# Altium integrated library Xilinx Spartan-3A.IntLib: 90 symbols (part 26 of 55)
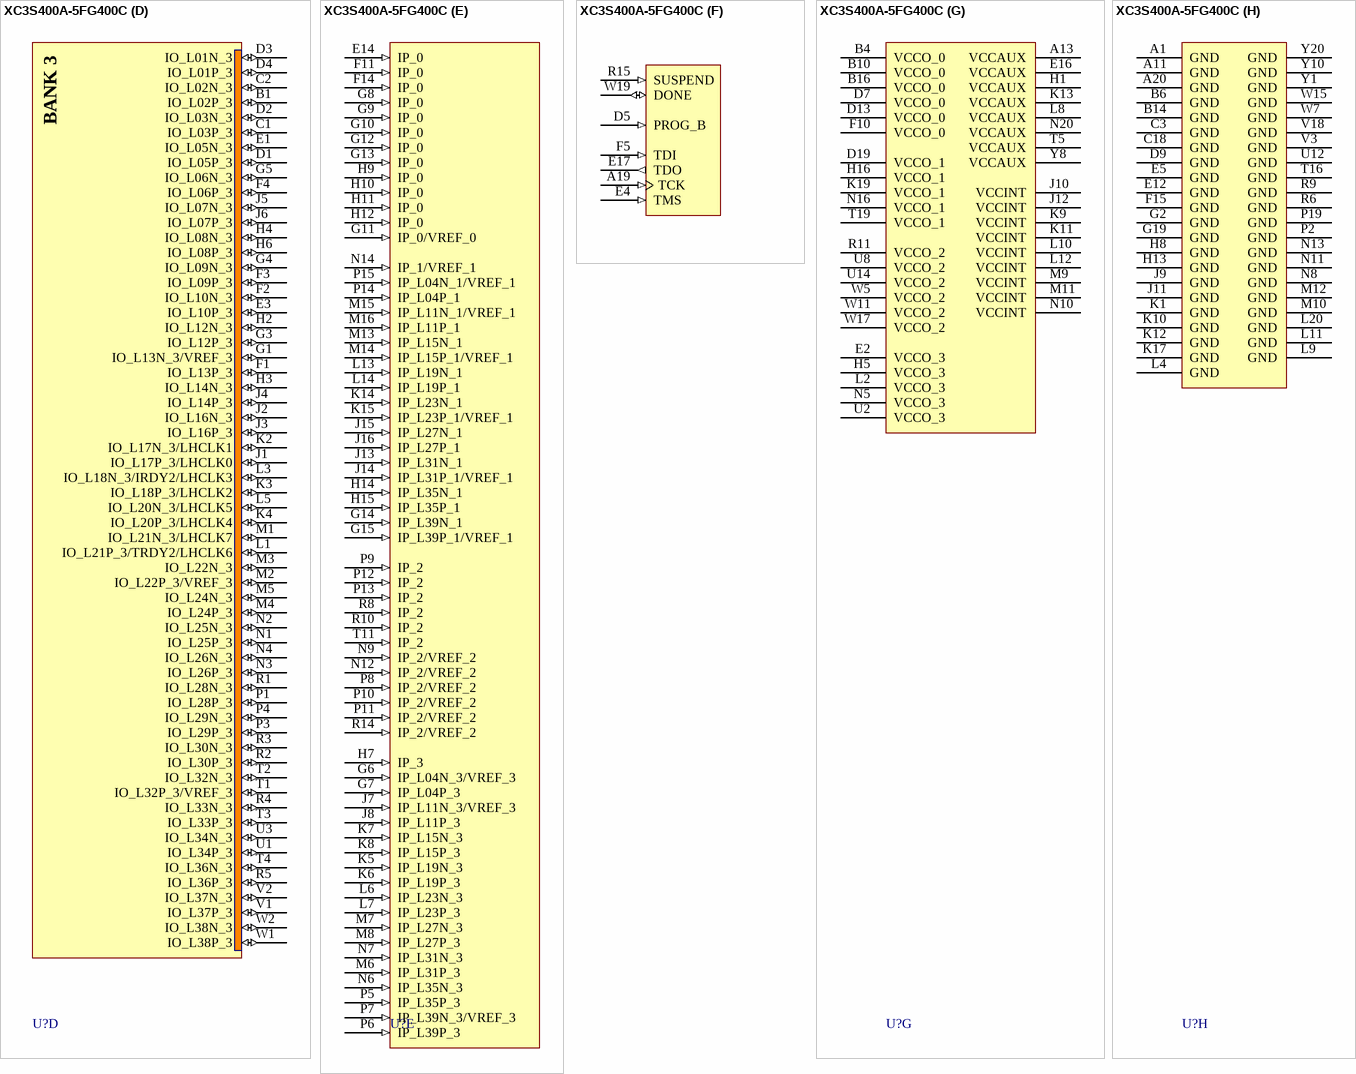
[diagram p121: symbol XC3S400A-5FG400C]

## XC3S400A-5FG400C
designator U?
Spartan-3A I/O Optimized FPGA, 311 User I/Os, 400-Ball FBGA, High Performance, Commercial Grade; Published: 12-Dec-2006; LatestRevisionDate: 24-Apr-2009; LatestRevisionNote: Updated to datasheet version 1.8 Mar-2009; DatasheetVersion: ver1.8, Mar-2009; PackageVersion: ver1.0, Mar-2005; PackageReference: FG400; Publisher: Altium Limited; PackageDescription: 400-Ball Fine Pitch Ball Grid Array 1.00 mm Pitch (FG400); Supplier 1: Digi-Key; Supplier Part Number 1: XC3S400A-5FG400C-ND; Code_JEDEC: MS-034-AAH-1; Code_IPC: BGA100P20X20-400; ComponentLink1Description: Spartan-3A Datasheet; ComponentLink1URL: http://www.xilinx.com/support/documentation/data_sheets/ds529.pdf; ComponentLink2Description: FG400 Package Drawing; ComponentLink2URL: http://www.xilinx.com/support/documentation/package_specs/fg400.pdf; ComponentLink3Description: Spartan-3A Documents; ComponentLink3URL: http://www.xilinx.com/support/documentation/spartan-3a.htm; ComponentLink4Description: Xilinx.com Home; ComponentLink4URL: http://www.xilinx.com
footprint FG400 (BGA, 400-Leads, Body 21x21mm, Pitch 1mm)
signal-integrity model XC3S400A_FG400 (Spartan-3A)
part A pins: A2 IO_L32P_0/VREF_0 (io) "Dual-purpose pin that is either a user-I/O pin or provides a reference voltage input.", A3 IO_L30P_0 (io) "Unrestricted, general-purpose user-I/O pin.", A4 IO_L29P_0 (io) "Unrestricted, general-purpose user-I/O pin.", A5 IO_L26P_0 (io) "Unrestricted, general-purpose user-I/O pin.", A6 IO_L25P_0 (io) "Unrestricted, general-purpose user-I/O pin.", A7 IO_L24N_0 (io) "Unrestricted, general-purpose user-I/O pin.", A8 IO_L18N_0/GCLK11 (io) "Either a user-I/O pin or a global clock input.", A9 IO_L18P_0/GCLK10 (io) "Either a user-I/O pin or a global clock input.", A10 IO_L16P_0/GCLK6 (io) "Either a user-I/O pin or a global clock input.", A12 IO_L13N_0 (io) "Unrestricted, general-purpose user-I/O pin.", A14 IO_L07N_0 (io) "Unrestricted, general-purpose user-I/O pin.", A15 IO_L08N_0 (io) "Unrestricted, general-purpose user-I/O pin.", A16 IO_L05N_0 (io) "Unrestricted, general-purpose user-I/O pin.", A17 IO_L04N_0 (io) "Unrestricted, general-purpose user-I/O pin.", A18 IO_L01N_0 (io) "Unrestricted, general-purpose user-I/O pin.", B2 IO_L32N_0/PUDC_B (io) "Dual-purpose pin used in some configuration modes, and then usually available as a user-I/O.", B3 IO_L30N_0 (io) "Unrestricted, general-purpose user-I/O pin.", B5 IO_L26N_0 (io) "Unrestricted, general-purpose user-I/O pin.", B7 IO_L24P_0 (io) "Unrestricted, general-purpose user-I/O pin.", B8 IO_L20P_0 (io) "Unrestricted, general-purpose user-I/O pin.", B9 IO_L19P_0 (io) "Unrestricted, general-purpose user-I/O pin.", B11 IO_L14P_0 (io) "Unrestricted, general-purpose user-I/O pin.", B12 IO_L13P_0 (io) "Unrestricted, general-purpose user-I/O pin.", B13 IO_L11P_0 (io) "Unrestricted, general-purpose user-I/O pin.", B15 IO_L08P_0 (io) "Unrestricted, general-purpose user-I/O pin.", B17 IO_L04P_0/VREF_0 (io) "Dual-purpose pin that is either a user-I/O pin or provides a reference voltage input.", B18 IO_L01P_0 (io) "Unrestricted, general-purpose user-I/O pin.", C4 IO_L29N_0 (io) "Unrestricted, general-purpose user-I/O pin.", C5 IO_L28P_0 (io) "Unrestricted, general-purpose user-I/O pin.", C6 IO_L25N_0 (io) "Unrestricted, general-purpose user-I/O pin.", C7 IO_L21P_0 (io) "Unrestricted, general-purpose user-I/O pin.", C8 IO_L20N_0 (io) "Unrestricted, general-purpose user-I/O pin.", C9 IO_L19N_0 (io) "Unrestricted, general-purpose user-I/O pin.", C10 IO_L16N_0/GCLK7 (io) "Either a user-I/O pin or a global clock input.", C11 IO_L14N_0 (io) "Unrestricted, general-purpose user-I/O pin.", C12 IO_L11N_0 (io) "Unrestricted, general-purpose user-I/O pin.", C13 IO_L10N_0/VREF_0 (io) "Dual-purpose pin that is either a user-I/O pin or provides a reference voltage input.", C14 IO_L07P_0 (io) "Unrestricted, general-purpose user-I/O pin.", C15 IO_L06N_0 (io) "Unrestricted, general-purpose user-I/O pin.", C16 IO_L05P_0 (io) "Unrestricted, general-purpose user-I/O pin.", C17 IO_L02N_0 (io) "Unrestricted, general-purpose user-I/O pin.", D6 IO_L28N_0 (io) "Unrestricted, general-purpose user-I/O pin.", D8 IO_L21N_0 (io) "Unrestricted, general-purpose user-I/O pin.", D10 IO_L17P_0/GCLK8 (io) "Either a user-I/O pin or a global clock input.", D11 IO_L15P_0/GCLK4 (io) "Either a user-I/O pin or a global clock input.", D12 IO_L12P_0 (io) "Unrestricted, general-purpose user-I/O pin.", D14 IO_L10P_0 (io) "Unrestricted, general-purpose user-I/O pin.", D15 IO_L06P_0 (io) "Unrestricted, general-purpose user-I/O pin.", D16 IO_L03P_0 (io) "Unrestricted, general-purpose user-I/O pin.", D17 IO_L02P_0/VREF_0 (io) "Dual-purpose pin that is either a user-I/O pin or provides a reference voltage input.", E6 IO_L31P_0 (io) "Unrestricted, general-purpose user-I/O pin.", E7 IO_L27P_0 (io) "Unrestricted, general-purpose user-I/O pin.", E8 IO_L23P_0 (io) "Unrestricted, general-purpose user-I/O pin.", E9 IO_L22P_0 (io) "Unrestricted, general-purpose user-I/O pin.", E10 IO_L17N_0/GCLK9 (io) "Either a user-I/O pin or a global clock input.", E11 IO_L15N_0/GCLK5 (io) "Either a user-I/O pin or a global clock input.", E13 IO_L09P_0 (io) "Unrestricted, general-purpose user-I/O pin.", E15 IO_L03N_0 (io) "Unrestricted, general-purpose user-I/O pin.", F6 IO_L31N_0 (io) "Unrestricted, general-purpose user-I/O pin.", F7 IO_L27N_0 (io) "Unrestricted, general-purpose user-I/O pin.", F8 IO_L23N_0 (io) "Unrestricted, general-purpose user-I/O pin.", F9 IO_L22N_0/VREF_0 (io) "Dual-purpose pin that is either a user-I/O pin or provides a reference voltage input.", F12 IO_L12N_0 (io) "Unrestricted, general-purpose user-I/O pin.", F13 IO_L09N_0 (io) "Unrestricted, general-purpose user-I/O pin."
part B pins: B19 IO_L38N_1/A25 (io) "Dual-purpose pin used in some configuration modes, and then usually available as a user-I/O.", B20 IO_L38P_1/A24 (io) "Dual-purpose pin used in some configuration modes, and then usually available as a user-I/O.", C19 IO_L37N_1/A23 (io) "Dual-purpose pin used in some configuration modes, and then usually available as a user-I/O.", C20 IO_L37P_1/A22 (io) "Dual-purpose pin used in some configuration modes, and then usually available as a user-I/O.", D18 IO_L34N_1 (io) "Unrestricted, general-purpose user-I/O pin.", D20 IO_L34P_1 (io) "Unrestricted, general-purpose user-I/O pin.", E18 IO_L33P_1 (io) "Unrestricted, general-purpose user-I/O pin.", E19 IO_L32N_1 (io) "Unrestricted, general-purpose user-I/O pin.", E20 IO_L32P_1 (io) "Unrestricted, general-purpose user-I/O pin.", F16 IO_L36N_1/A21 (io) "Dual-purpose pin used in some configuration modes, and then usually available as a user-I/O.", F17 IO_L33N_1 (io) "Unrestricted, general-purpose user-I/O pin.", F18 IO_L30N_1/A19 (io) "Dual-purpose pin used in some configuration modes, and then usually available as a user-I/O.", F19 IO_L29N_1/A17 (io) "Dual-purpose pin used in some configuration modes, and then usually available as a user-I/O.", F20 IO_L29P_1/A16 (io) "Dual-purpose pin used in some configuration modes, and then usually available as a user-I/O.", G16 IO_L36P_1/A20 (io) "Dual-purpose pin used in some configuration modes, and then usually available as a user-I/O.", G17 IO_L30P_1/A18 (io) "Dual-purpose pin used in some configuration modes, and then usually available as a user-I/O.", G18 IO_L28P_1 (io) "Unrestricted, general-purpose user-I/O pin.", G20 IO_L26N_1/A15 (io) "Dual-purpose pin used in some configuration modes, and then usually available as a user-I/O.", H17 IO_L28N_1 (io) "Unrestricted, general-purpose user-I/O pin.", H18 IO_L25N_1/A13 (io) "Dual-purpose pin used in some configuration modes, and then usually available as a user-I/O.", H19 IO_L25P_1/A12 (io) "Dual-purpose pin used in some configuration modes, and then usually available as a user-I/O.", H20 IO_L26P_1/A14 (io) "Dual-purpose pin used in some configuration modes, and then usually available as a user-I/O.", J17 IO_L24P_1 (io) "Unrestricted, general-purpose user-I/O pin.", J18 IO_L22N_1/A11 (io) "Dual-purpose pin used in some configuration modes, and then usually available as a user-I/O.", J19 IO_L22P_1/A10 (io) "Dual-purpose pin used in some configuration modes, and then usually available as a user-I/O.", J20 IO_L21N_1/RHCLK7 (io) "Either a user-I/O pin or a global clock input for right half of device.", K16 IO_L24N_1 (io) "Unrestricted, general-purpose user-I/O pin.", K18 IO_L20P_1/RHCLK4 (io) "Either a user-I/O pin or a global clock input for right half of device.", K20 IO_L21P_1/IRDY1/RHCLK6 (io) "Either a user-I/O pin or a global clock input for right half of device.", L15 IO_L16P_1/A8 (io) "Dual-purpose pin used in some configuration modes, and then usually available as a user-I/O.", L16 IO_L16N_1/A9 (io) "Dual-purpose pin used in some configuration modes, and then usually available as a user-I/O.", L17 IO_L20N_1/RHCLK5 (io) "Either a user-I/O pin or a global clock input for right half of device.", L18 IO_L18N_1/TRDY1/RHCLK3 (io) "Either a user-I/O pin or a global clock input for right half of device.", L19 IO_L18P_1/RHCLK2 (io) "Either a user-I/O pin or a global clock input for right half of device.", M17 IO_L14P_1/A6 (io) "Dual-purpose pin used in some configuration modes, and then usually available as a user-I/O.", M18 IO_L14N_1/A7 (io) "Dual-purpose pin used in some configuration modes, and then usually available as a user-I/O.", M19 IO_L17P_1/RHCLK0 (io) "Either a user-I/O pin or a global clock input for right half of device.", M20 IO_L17N_1/RHCLK1 (io) "Either a user-I/O pin or a global clock input for right half of device.", N15 IO_L12P_1/A2 (io) "Dual-purpose pin used in some configuration modes, and then usually available as a user-I/O.", N17 IO_L12N_1/A3 (io) "Dual-purpose pin used in some configuration modes, and then usually available as a user-I/O.", N18 IO_L13P_1/A4 (io) "Dual-purpose pin used in some configuration modes, and then usually available as a user-I/O.", N19 IO_L13N_1/A5 (io) "Dual-purpose pin used in some configuration modes, and then usually available as a user-I/O.", P16 IO_L07P_1 (io) "Unrestricted, general-purpose user-I/O pin.", P17 IO_L07N_1 (io) "Unrestricted, general-purpose user-I/O pin.", P18 IO_L10P_1 (io) "Unrestricted, general-purpose user-I/O pin.", P20 IO_L10N_1/VREF_1 (io) "Dual-purpose pin that is either a user-I/O pin or provides a reference voltage input.", R16 IO_L03N_1/A1 (io) "Dual-purpose pin used in some configuration modes, and then usually available as a user-I/O.", R17 IO_L08N_1 (io) "Unrestricted, general-purpose user-I/O pin.", R18 IO_L08P_1 (io) "Unrestricted, general-purpose user-I/O pin.", R19 IO_L09P_1 (io) "Unrestricted, general-purpose user-I/O pin.", R20 IO_L09N_1 (io) "Unrestricted, general-purpose user-I/O pin.", T17 IO_L03P_1/A0 (io) "Dual-purpose pin used in some configuration modes, and then usually available as a user-I/O.", T18 IO_L05P_1 (io) "Unrestricted, general-purpose user-I/O pin.", T20 IO_L05N_1 (io) "Unrestricted, general-purpose user-I/O pin.", U18 IO_L02N_1/LDC0 (io) "Dual-purpose pin used in some configuration modes, and then usually available as a user-I/O.", U19 IO_L06P_1 (io) "Unrestricted, general-purpose user-I/O pin.", U20 IO_L06N_1 (io) "Unrestricted, general-purpose user-I/O pin.", V19 IO_L02P_1/LDC1 (io) "Dual-purpose pin used in some configuration modes, and then usually available as a user-I/O.", V20 IO_L01N_1/LDC2 (io) "Dual-purpose pin used in some configuration modes, and then usually available as a user-I/O.", W20 IO_L01P_1/HDC (io) "Dual-purpose pin used in some configuration modes, and then usually available as a user-I/O."
part C pins: R7 IO_L04N_2 (io) "Unrestricted, general-purpose user-I/O pin.", R12 IO_L19N_2 (io) "Unrestricted, general-purpose user-I/O pin.", R13 IO_L23N_2 (io) "Unrestricted, general-purpose user-I/O pin.", T6 IO_L04P_2 (io) "Unrestricted, general-purpose user-I/O pin.", T7 IO_L06P_2 (io) "Unrestricted, general-purpose user-I/O pin.", T8 IO_L07P_2/RDWR_B (io) "Dual-purpose pin used in some configuration modes, and then usually available as a user-I/O.", T9 IO_L11P_2 (io) "Unrestricted, general-purpose user-I/O pin.", T10 IO_L14N_2/D4 (io) "Dual-purpose pin used in some configuration modes, and then usually available as a user-I/O.", T12 IO_L19P_2 (io) "Unrestricted, general-purpose user-I/O pin.", T13 IO_L23P_2 (io) "Unrestricted, general-purpose user-I/O pin.", T14 IO_L25N_2 (io) "Unrestricted, general-purpose user-I/O pin.", T15 IO_L27N_2 (io) "Unrestricted, general-purpose user-I/O pin.", U4 IO_L01P_2/M1 (io) "Dual-purpose pin used in some configuration modes, and then usually available as a user-I/O.", U5 IO_L05N_2 (io) "Unrestricted, general-purpose user-I/O pin.", U6 IO_L06N_2 (io) "Unrestricted, general-purpose user-I/O pin.", U7 IO_L07N_2/VS2 (io) "Dual-purpose pin used in some configuration modes, and then usually available as a user-I/O.", U9 IO_L11N_2 (io) "Unrestricted, general-purpose user-I/O pin.", U10 IO_L14P_2/D5 (io) "Dual-purpose pin used in some configuration modes, and then usually available as a user-I/O.", U11 IO_L18P_2/GCLK2 (io) "Either a user-I/O pin or a global clock input.", U13 IO_L22P_2/AWAKE (io) "Dual-Purpose pin. Used for the power-saving Suspend mode and user-I/O.", U15 IO_L27P_2 (io) "Unrestricted, general-purpose user-I/O pin.", U16 IO_L29N_2 (io) "Unrestricted, general-purpose user-I/O pin.", U17 IO_L31N_2 (io) "Unrestricted, general-purpose user-I/O pin.", V4 IO_L01N_2/M0 (io) "Dual-purpose pin used in some configuration modes, and then usually available as a user-I/O.", V5 IO_L05P_2 (io) "Unrestricted, general-purpose user-I/O pin.", V6 IO_L09P_2/VS1 (io) "Dual-purpose pin used in some configuration modes, and then usually available as a user-I/O.", V7 IO_L12P_2/D7 (io) "Dual-purpose pin used in some configuration modes, and then usually available as a user-I/O.", V8 IO_L13P_2 (io) "Unrestricted, general-purpose user-I/O pin.", V9 IO_L13N_2 (io) "Unrestricted, general-purpose user-I/O pin.", V10 IO_L16P_2/GCLK14 (io) "Either a user-I/O pin or a global clock input.", V11 IO_L17N_2/GCLK1 (io) "Either a user-I/O pin or a global clock input.", V12 IO_L18N_2/GCLK3 (io) "Either a user-I/O pin or a global clock input.", V13 IO_L22N_2/DOUT (io) "Dual-purpose pin used in some configuration modes, and then usually available as a user-I/O.", V14 IO_L25P_2 (io) "Unrestricted, general-purpose user-I/O pin.", V15 IO_L26N_2/D1 (io) "Dual-purpose pin used in some configuration modes, and then usually available as a user-I/O.", V16 IO_L29P_2 (io) "Unrestricted, general-purpose user-I/O pin.", V17 IO_L31P_2 (io) "Unrestricted, general-purpose user-I/O pin.", W3 IO_L02P_2/M2 (io) "Dual-purpose pin used in some configuration modes, and then usually available as a user-I/O.", W4 IO_L03N_2 (io) "Unrestricted, general-purpose user-I/O pin.", W6 IO_L09N_2/VS0 (io) "Dual-purpose pin used in some configuration modes, and then usually available as a user-I/O.", W8 IO_L12N_2/D6 (io) "Dual-purpose pin used in some configuration modes, and then usually available as a user-I/O.", W9 IO_L15P_2/GCLK12 (io) "Either a user-I/O pin or a global clock input.", W10 IO_L16N_2/GCLK15 (io) "Either a user-I/O pin or a global clock input.", W12 IO_L20N_2/MOSI/CSI_B (io) "Dual-purpose pin used in some configuration modes, and then usually available as a user-I/O.", W13 IO_L21N_2 (io) "Unrestricted, general-purpose user-I/O pin.", W14 IO_L24N_2/D3 (io) "Dual-purpose pin used in some configuration modes, and then usually available as a user-I/O.", W16 IO_L28N_2 (io) "Unrestricted, general-purpose user-I/O pin.", W18 IO_L32P_2/D0/DIN/MISO (io) "Dual-purpose pin used in some configuration modes, and then usually available as a user-I/O.", Y2 IO_L02N_2/CSO_B (io) "Dual-purpose pin used in some configuration modes, and then usually available as a user-I/O.", Y3 IO_L03P_2 (io) "Unrestricted, general-purpose user-I/O pin.", Y4 IO_L08P_2 (io) "Unrestricted, general-purpose user-I/O pin.", Y5 IO_L08N_2 (io) "Unrestricted, general-purpose user-I/O pin.", Y6 IO_L10P_2 (io) "Unrestricted, general-purpose user-I/O pin.", Y7 IO_L10N_2 (io) "Unrestricted, general-purpose user-I/O pin.", Y9 IO_L15N_2/GCLK13 (io) "Either a user-I/O pin or a global clock input.", Y11 IO_L17P_2/GCLK0 (io) "Either a user-I/O pin or a global clock input.", Y12 IO_L20P_2 (io) "Unrestricted, general-purpose user-I/O pin.", Y13 IO_L21P_2 (io) "Unrestricted, general-purpose user-I/O pin.", Y14 IO_L24P_2/INIT_B (io) "Dual-purpose pin used in some configuration modes, and then usually available as a user-I/O.", Y15 IO_L26P_2/D2 (io) "Dual-purpose pin used in some configuration modes, and then usually available as a user-I/O.", Y16 IO_L28P_2 (io) "Unrestricted, general-purpose user-I/O pin.", Y17 IO_L30P_2 (io) "Unrestricted, general-purpose user-I/O pin.", Y18 IO_L30N_2 (io) "Unrestricted, general-purpose user-I/O pin.", Y19 IO_L32N_2/CCLK (io) "Dual-purpose pin used in some configuration modes, and then usually available as a user-I/O."
part D pins: B1 IO_L02P_3 (io) "Unrestricted, general-purpose user-I/O pin.", C1 IO_L03P_3 (io) "Unrestricted, general-purpose user-I/O pin.", C2 IO_L02N_3 (io) "Unrestricted, general-purpose user-I/O pin.", D1 IO_L05P_3 (io) "Unrestricted, general-purpose user-I/O pin.", D2 IO_L03N_3 (io) "Unrestricted, general-purpose user-I/O pin.", D3 IO_L01N_3 (io) "Unrestricted, general-purpose user-I/O pin.", D4 IO_L01P_3 (io) "Unrestricted, general-purpose user-I/O pin.", E1 IO_L05N_3 (io) "Unrestricted, general-purpose user-I/O pin.", E3 IO_L10P_3 (io) "Unrestricted, general-purpose user-I/O pin.", F1 IO_L13P_3 (io) "Unrestricted, general-purpose user-I/O pin.", F2 IO_L10N_3 (io) "Unrestricted, general-purpose user-I/O pin.", F3 IO_L09P_3 (io) "Unrestricted, general-purpose user-I/O pin.", F4 IO_L06P_3 (io) "Unrestricted, general-purpose user-I/O pin.", G1 IO_L13N_3/VREF_3 (io) "Dual-purpose pin that is either a user-I/O pin or provides a reference voltage input.", G3 IO_L12P_3 (io) "Unrestricted, general-purpose user-I/O pin.", G4 IO_L09N_3 (io) "Unrestricted, general-purpose user-I/O pin.", G5 IO_L06N_3 (io) "Unrestricted, general-purpose user-I/O pin.", H2 IO_L12N_3 (io) "Unrestricted, general-purpose user-I/O pin.", H3 IO_L14N_3 (io) "Unrestricted, general-purpose user-I/O pin.", H4 IO_L08N_3 (io) "Unrestricted, general-purpose user-I/O pin.", H6 IO_L08P_3 (io) "Unrestricted, general-purpose user-I/O pin.", J1 IO_L17P_3/LHCLK0 (io) "Either a user-I/O pin or a global clock input for left half of device.", J2 IO_L16N_3 (io) "Unrestricted, general-purpose user-I/O pin.", J3 IO_L16P_3 (io) "Unrestricted, general-purpose user-I/O pin.", J4 IO_L14P_3 (io) "Unrestricted, general-purpose user-I/O pin.", J5 IO_L07N_3 (io) "Unrestricted, general-purpose user-I/O pin.", J6 IO_L07P_3 (io) "Unrestricted, general-purpose user-I/O pin.", K2 IO_L17N_3/LHCLK1 (io) "Either a user-I/O pin or a global clock input for left half of device.", K3 IO_L18P_3/LHCLK2 (io) "Either a user-I/O pin or a global clock input for left half of device.", K4 IO_L20P_3/LHCLK4 (io) "Either a user-I/O pin or a global clock input for left half of device.", L1 IO_L21P_3/TRDY2/LHCLK6 (io) "Either a user-I/O pin or a global clock input for left half of device.", L3 IO_L18N_3/IRDY2/LHCLK3 (io) "Either a user-I/O pin or a global clock input for left half of device.", L5 IO_L20N_3/LHCLK5 (io) "Either a user-I/O pin or a global clock input for left half of device.", M1 IO_L21N_3/LHCLK7 (io) "Either a user-I/O pin or a global clock input for left half of device.", M2 IO_L22P_3/VREF_3 (io) "Dual-purpose pin that is either a user-I/O pin or provides a reference voltage input.", M3 IO_L22N_3 (io) "Unrestricted, general-purpose user-I/O pin.", M4 IO_L24P_3 (io) "Unrestricted, general-purpose user-I/O pin.", M5 IO_L24N_3 (io) "Unrestricted, general-purpose user-I/O pin.", N1 IO_L25P_3 (io) "Unrestricted, general-purpose user-I/O pin.", N2 IO_L25N_3 (io) "Unrestricted, general-purpose user-I/O pin.", N3 IO_L26P_3 (io) "Unrestricted, general-purpose user-I/O pin.", N4 IO_L26N_3 (io) "Unrestricted, general-purpose user-I/O pin.", P1 IO_L28P_3 (io) "Unrestricted, general-purpose user-I/O pin.", P3 IO_L29P_3 (io) "Unrestricted, general-purpose user-I/O pin.", P4 IO_L29N_3 (io) "Unrestricted, general-purpose user-I/O pin.", R1 IO_L28N_3 (io) "Unrestricted, general-purpose user-I/O pin.", R2 IO_L30P_3 (io) "Unrestricted, general-purpose user-I/O pin.", R3 IO_L30N_3 (io) "Unrestricted, general-purpose user-I/O pin.", R4 IO_L33N_3 (io) "Unrestricted, general-purpose user-I/O pin.", R5 IO_L36P_3 (io) "Unrestricted, general-purpose user-I/O pin.", T1 IO_L32P_3/VREF_3 (io) "Dual-purpose pin that is either a user-I/O pin or provides a reference voltage input.", T2 IO_L32N_3 (io) "Unrestricted, general-purpose user-I/O pin.", T3 IO_L33P_3 (io) "Unrestricted, general-purpose user-I/O pin.", T4 IO_L36N_3 (io) "Unrestricted, general-purpose user-I/O pin.", U1 IO_L34P_3 (io) "Unrestricted, general-purpose user-I/O pin.", U3 IO_L34N_3 (io) "Unrestricted, general-purpose user-I/O pin.", V1 IO_L37P_3 (io) "Unrestricted, general-purpose user-I/O pin.", V2 IO_L37N_3 (io) "Unrestricted, general-purpose user-I/O pin.", W1 IO_L38P_3 (io) "Unrestricted, general-purpose user-I/O pin.", W2 IO_L38N_3 (io) "Unrestricted, general-purpose user-I/O pin."
part E pins: E14 IP_0 (in) "Unrestricted, general-purpose input-only pin.", F11 IP_0 (in) "Unrestricted, general-purpose input-only pin.", F14 IP_0 (in) "Unrestricted, general-purpose input-only pin.", G6 IP_L04N_3/VREF_3 (in) "Dual-purpose pin that is either a Input-only pin, or provides a reference voltage input.", G7 IP_L04P_3 (in) "Unrestricted, general-purpose input-only pin.", G8 IP_0 (in) "Unrestricted, general-purpose input-only pin.", G9 IP_0 (in) "Unrestricted, general-purpose input-only pin.", G10 IP_0 (in) "Unrestricted, general-purpose input-only pin.", G11 IP_0/VREF_0 (in) "Dual-purpose pin that is either a Input-only pin, or provides a reference voltage input.", G12 IP_0 (in) "Unrestricted, general-purpose input-only pin.", G13 IP_0 (in) "Unrestricted, general-purpose input-only pin.", G14 IP_L39N_1 (in) "Unrestricted, general-purpose input-only pin.", G15 IP_L39P_1/VREF_1 (in) "Dual-purpose pin that is either a Input-only pin, or provides a reference voltage input.", H7 IP_3 (in) "Unrestricted, general-purpose input-only pin.", H9 IP_0 (in) "Unrestricted, general-purpose input-only pin.", H10 IP_0 (in) "Unrestricted, general-purpose input-only pin.", H11 IP_0 (in) "Unrestricted, general-purpose input-only pin.", H12 IP_0 (in) "Unrestricted, general-purpose input-only pin.", H14 IP_L35N_1 (in) "Unrestricted, general-purpose input-only pin.", H15 IP_L35P_1 (in) "Unrestricted, general-purpose input-only pin.", J7 IP_L11N_3/VREF_3 (in) "Dual-purpose pin that is either a Input-only pin, or provides a reference voltage input.", J8 IP_L11P_3 (in) "Unrestricted, general-purpose input-only pin.", J13 IP_L31N_1 (in) "Unrestricted, general-purpose input-only pin.", J14 IP_L31P_1/VREF_1 (in) "Dual-purpose pin that is either a Input-only pin, or provides a reference voltage input.", J15 IP_L27N_1 (in) "Unrestricted, general-purpose input-only pin.", J16 IP_L27P_1 (in) "Unrestricted, general-purpose input-only pin.", K5 IP_L19N_3 (in) "Unrestricted, general-purpose input-only pin.", K6 IP_L19P_3 (in) "Unrestricted, general-purpose input-only pin.", K7 IP_L15N_3 (in) "Unrestricted, general-purpose input-only pin.", K8 IP_L15P_3 (in) "Unrestricted, general-purpose input-only pin.", K14 IP_L23N_1 (in) "Unrestricted, general-purpose input-only pin.", K15 IP_L23P_1/VREF_1 (in) "Dual-purpose pin that is either a Input-only pin, or provides a reference voltage input.", L6 IP_L23N_3 (in) "Unrestricted, general-purpose input-only pin.", L7 IP_L23P_3 (in) "Unrestricted, general-purpose input-only pin.", L13 IP_L19N_1 (in) "Unrestricted, general-purpose input-only pin.", L14 IP_L19P_1 (in) "Unrestricted, general-purpose input-only pin.", M6 IP_L31P_3 (in) "Unrestricted, general-purpose input-only pin.", M7 IP_L27N_3 (in) "Unrestricted, general-purpose input-only pin.", M8 IP_L27P_3 (in) "Unrestricted, general-purpose input-only pin.", M13 IP_L15N_1 (in) "Unrestricted, general-purpose input-only pin.", M14 IP_L15P_1/VREF_1 (in) "Dual-purpose pin that is either a Input-only pin, or provides a reference voltage input.", M15 IP_L11N_1/VREF_1 (in) "Dual-purpose pin that is either a Input-only pin, or provides a reference voltage input.", M16 IP_L11P_1 (in) "Unrestricted, general-purpose input-only pin.", N6 IP_L35N_3 (in) "Unrestricted, general-purpose input-only pin.", N7 IP_L31N_3 (in) "Unrestricted, general-purpose input-only pin.", N9 IP_2/VREF_2 (in) "Dual-purpose pin that is either a Input-only pin, or provides a reference voltage input.", N12 IP_2/VREF_2 (in) "Dual-purpose pin that is either a Input-only pin, or provides a reference voltage input.", N14 IP_1/VREF_1 (in) "Dual-purpose pin that is either a Input-only pin, or provides a reference voltage input.", P5 IP_L35P_3 (in) "Unrestricted, general-purpose input-only pin.", P6 IP_L39P_3 (in) "Unrestricted, general-purpose input-only pin.", P7 IP_L39N_3/VREF_3 (in) "Dual-purpose pin that is either a Input-only pin, or provides a reference voltage input.", P8 IP_2/VREF_2 (in) "Dual-purpose pin that is either a Input-only pin, or provides a reference voltage input.", P9 IP_2 (in) "Unrestricted, general-purpose input-only pin.", P10 IP_2/VREF_2 (in) "Dual-purpose pin that is either a Input-only pin, or provides a reference voltage input.", P11 IP_2/VREF_2 (in) "Dual-purpose pin that is either a Input-only pin, or provides a reference voltage input.", P12 IP_2 (in) "Unrestricted, general-purpose input-only pin.", P13 IP_2 (in) "Unrestricted, general-purpose input-only pin.", P14 IP_L04P_1 (in) "Unrestricted, general-purpose input-only pin.", P15 IP_L04N_1/VREF_1 (in) "Dual-purpose pin that is either a Input-only pin, or provides a reference voltage input.", R8 IP_2 (in) "Unrestricted, general-purpose input-only pin.", R10 IP_2 (in) "Unrestricted, general-purpose input-only pin.", R14 IP_2/VREF_2 (in) "Dual-purpose pin that is either a Input-only pin, or provides a reference voltage input.", T11 IP_2 (in) "Unrestricted, general-purpose input-only pin."
part F pins: A19 TCK (in) "Dedicated JTAG pin.", D5 PROG_B (in) "Dedicated configuration pin.", E4 TMS (in) "Dedicated JTAG pin.", E17 TDO (out) "Dedicated JTAG pin.", F5 TDI (in) "Dedicated JTAG pin.", R15 SUSPEND (in) "Dedicated pin for the power-saving Suspend mode.", W19 DONE (io) "Dedicated configuration pin."
part G pins: A13 VCCAUX (power) "Dedicated auxiliary power supply pin.", B4 VCCO_0 (power) "Supplies power to the output buffers within the I/O bank.", B10 VCCO_0 (power) "Supplies power to the output buffers within the I/O bank.", B16 VCCO_0 (power) "Supplies power to the output buffers within the I/O bank.", D7 VCCO_0 (power) "Supplies power to the output buffers within the I/O bank.", D13 VCCO_0 (power) "Supplies power to the output buffers within the I/O bank.", D19 VCCO_1 (power) "Supplies power to the output buffers within the I/O bank.", E2 VCCO_3 (power) "Supplies power to the output buffers within the I/O bank.", E16 VCCAUX (power) "Dedicated auxiliary power supply pin.", F10 VCCO_0 (power) "Supplies power to the output buffers within the I/O bank.", H1 VCCAUX (power) "Dedicated auxiliary power supply pin.", H5 VCCO_3 (power) "Supplies power to the output buffers within the I/O bank.", H16 VCCO_1 (power) "Supplies power to the output buffers within the I/O bank.", J10 VCCINT (power) "Dedicated internal core logic power supply pin.", J12 VCCINT (power) "Dedicated internal core logic power supply pin.", K9 VCCINT (power) "Dedicated internal core logic power supply pin.", K11 VCCINT (power) "Dedicated internal core logic power supply pin.", K13 VCCAUX (power) "Dedicated auxiliary power supply pin.", K19 VCCO_1 (power) "Supplies power to the output buffers within the I/O bank.", L2 VCCO_3 (power) "Supplies power to the output buffers within the I/O bank.", L8 VCCAUX (power) "Dedicated auxiliary power supply pin.", L10 VCCINT (power) "Dedicated internal core logic power supply pin.", L12 VCCINT (power) "Dedicated internal core logic power supply pin.", M9 VCCINT (power) "Dedicated internal core logic power supply pin.", M11 VCCINT (power) "Dedicated internal core logic power supply pin.", N5 VCCO_3 (power) "Supplies power to the output buffers within the I/O bank.", N10 VCCINT (power) "Dedicated internal core logic power supply pin.", N16 VCCO_1 (power) "Supplies power to the output buffers within the I/O bank.", N20 VCCAUX (power) "Dedicated auxiliary power supply pin.", R11 VCCO_2 (power) "Supplies power to the output buffers within the I/O bank.", T5 VCCAUX (power) "Dedicated auxiliary power supply pin.", T19 VCCO_1 (power) "Supplies power to the output buffers within the I/O bank.", U2 VCCO_3 (power) "Supplies power to the output buffers within the I/O bank.", U8 VCCO_2 (power) "Supplies power to the output buffers within the I/O bank.", U14 VCCO_2 (power) "Supplies power to the output buffers within the I/O bank.", W5 VCCO_2 (power) "Supplies power to the output buffers within the I/O bank.", W11 VCCO_2 (power) "Supplies power to the output buffers within the I/O bank.", W17 VCCO_2 (power) "Supplies power to the output buffers within the I/O bank.", Y8 VCCAUX (power) "Dedicated auxiliary power supply pin."
part H pins: A1 GND (power) "Dedicated ground pin.", A11 GND (power) "Dedicated ground pin.", A20 GND (power) "Dedicated ground pin.", B6 GND (power) "Dedicated ground pin.", B14 GND (power) "Dedicated ground pin.", C3 GND (power) "Dedicated ground pin.", C18 GND (power) "Dedicated ground pin.", D9 GND (power) "Dedicated ground pin.", E5 GND (power) "Dedicated ground pin.", E12 GND (power) "Dedicated ground pin.", F15 GND (power) "Dedicated ground pin.", G2 GND (power) "Dedicated ground pin.", G19 GND (power) "Dedicated ground pin.", H8 GND (power) "Dedicated ground pin.", H13 GND (power) "Dedicated ground pin.", J9 GND (power) "Dedicated ground pin.", J11 GND (power) "Dedicated ground pin.", K1 GND (power) "Dedicated ground pin.", K10 GND (power) "Dedicated ground pin.", K12 GND (power) "Dedicated ground pin.", K17 GND (power) "Dedicated ground pin.", L4 GND (power) "Dedicated ground pin.", L9 GND (power) "Dedicated ground pin.", L11 GND (power) "Dedicated ground pin.", L20 GND (power) "Dedicated ground pin.", M10 GND (power) "Dedicated ground pin.", M12 GND (power) "Dedicated ground pin.", N8 GND (power) "Dedicated ground pin.", N11 GND (power) "Dedicated ground pin.", N13 GND (power) "Dedicated ground pin.", P2 GND (power) "Dedicated ground pin.", P19 GND (power) "Dedicated ground pin.", R6 GND (power) "Dedicated ground pin.", R9 GND (power) "Dedicated ground pin.", T16 GND (power) "Dedicated ground pin.", U12 GND (power) "Dedicated ground pin.", V3 GND (power) "Dedicated ground pin.", V18 GND (power) "Dedicated ground pin.", W7 GND (power) "Dedicated ground pin.", W15 GND (power) "Dedicated ground pin.", Y1 GND (power) "Dedicated ground pin.", Y10 GND (power) "Dedicated ground pin.", Y20 GND (power) "Dedicated ground pin."
part A text: BANK 0
part B text: BANK 1
part C text: BANK 2
part D text: BANK 3

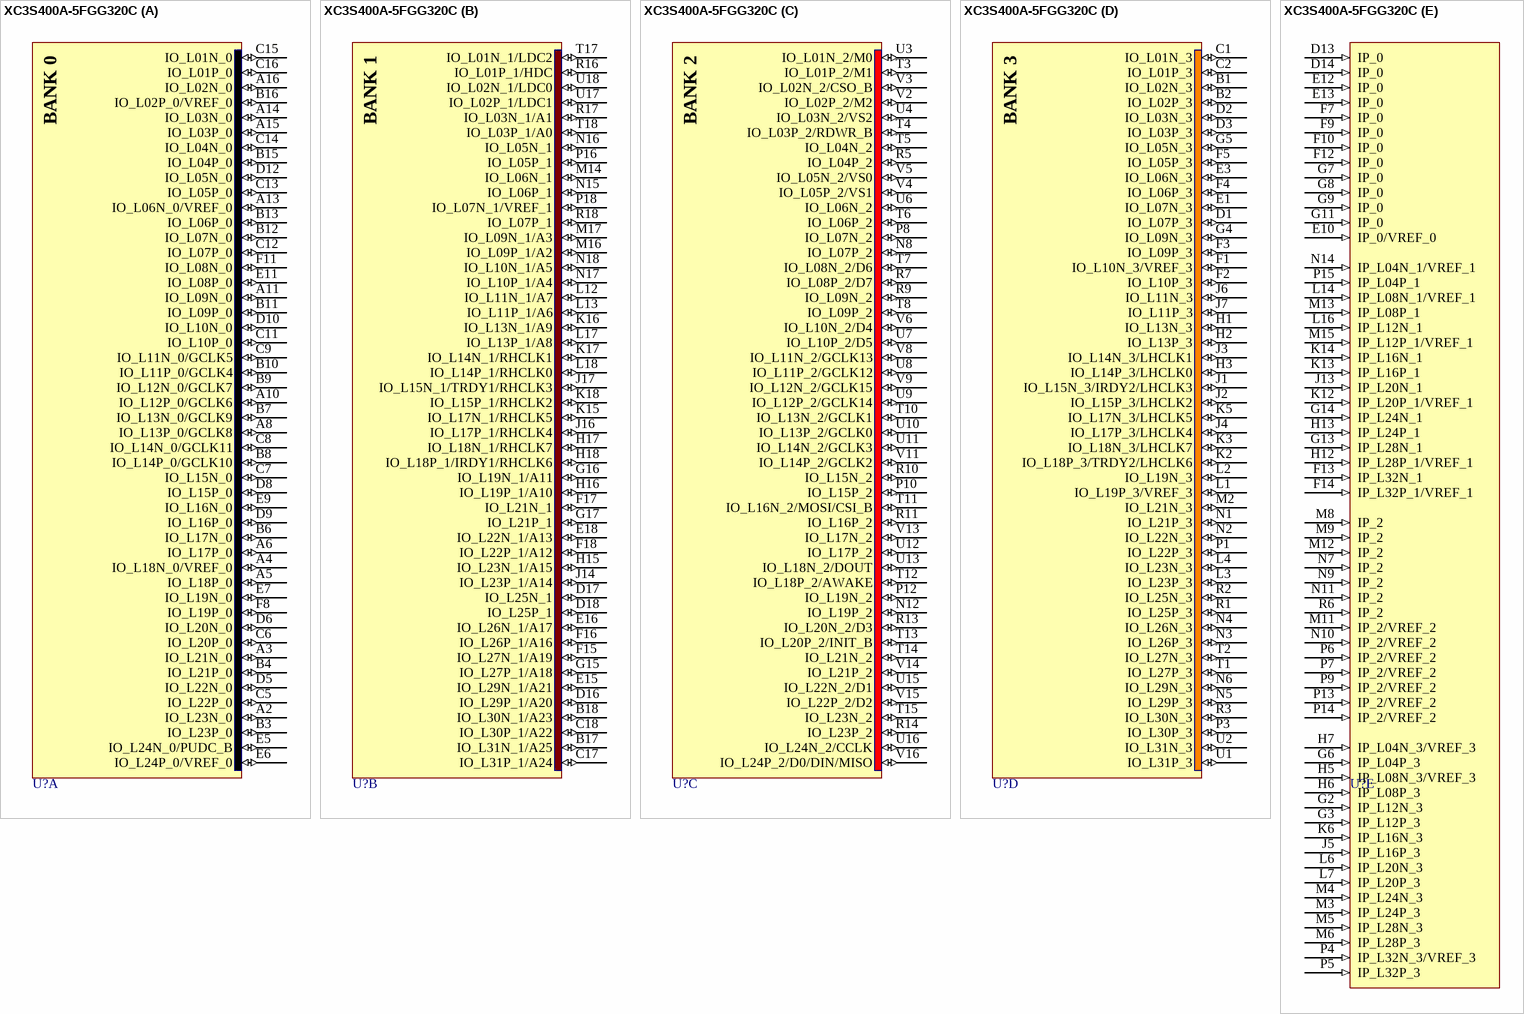
[diagram p45: symbol XC3S400A-5FGG320C]

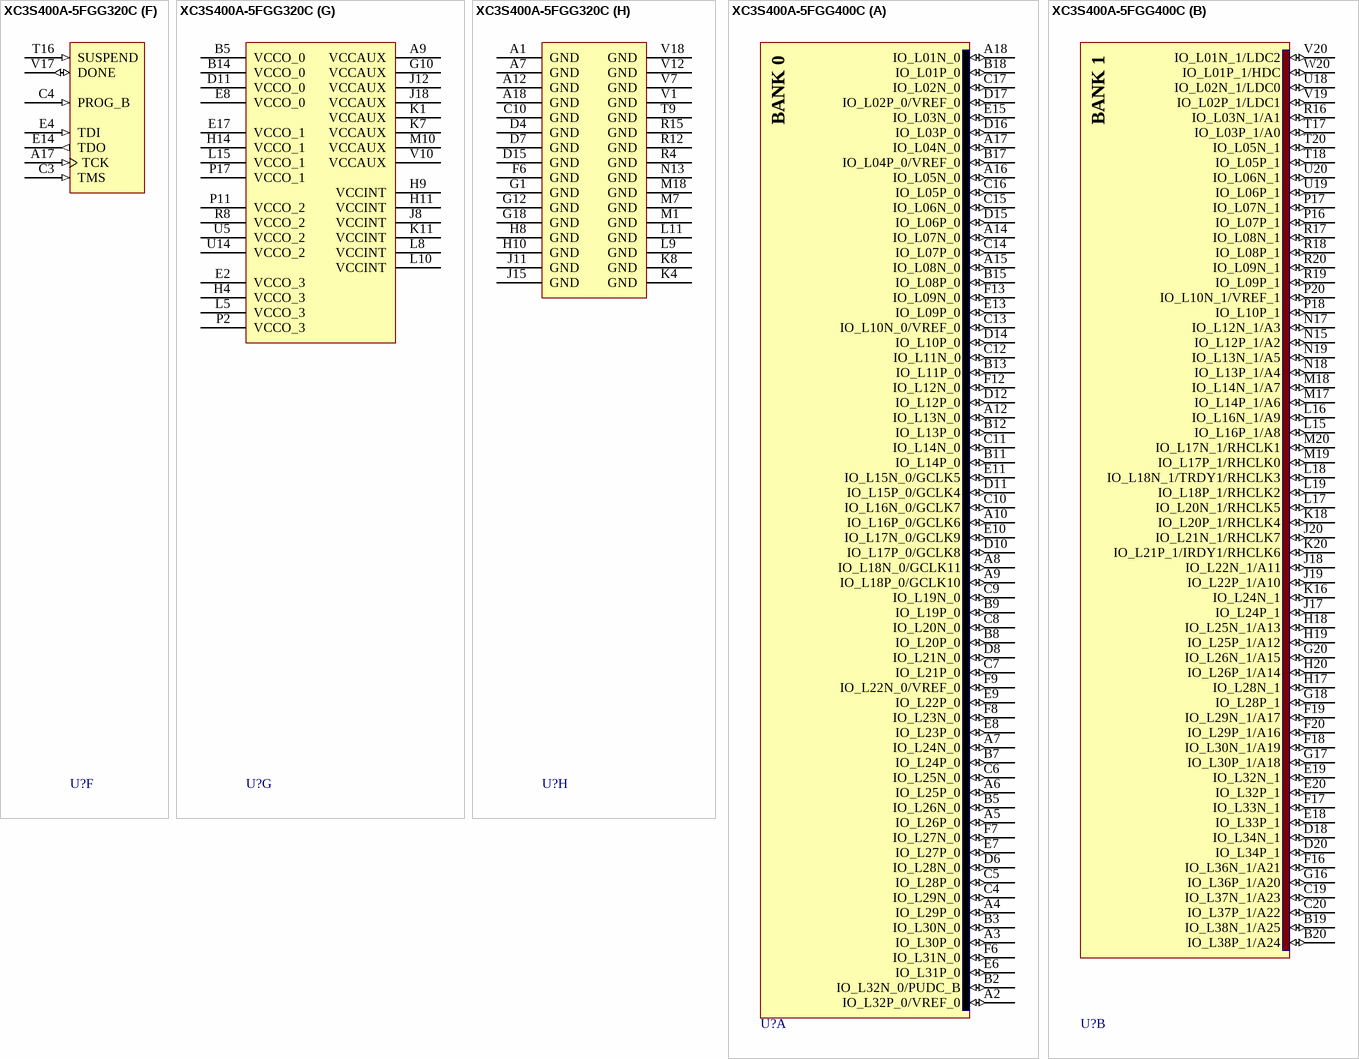
[diagram p46: symbols XC3S400A-5FGG320C to XC3S400A-5FGG400C]